# Altium footprint library Crystal.PcbLib: 185 footprints (part 3 of 12)
Each footprint in its own frame and in the unit in brackets; x right, y up, seen from the top. Pads: shape width x height; smd on the part's side, far side on the other; paste and mask are expansions set on the pad; w line width, h text height; cw(c..) or ccw(c..) is an arc to the next point about the centre after c.
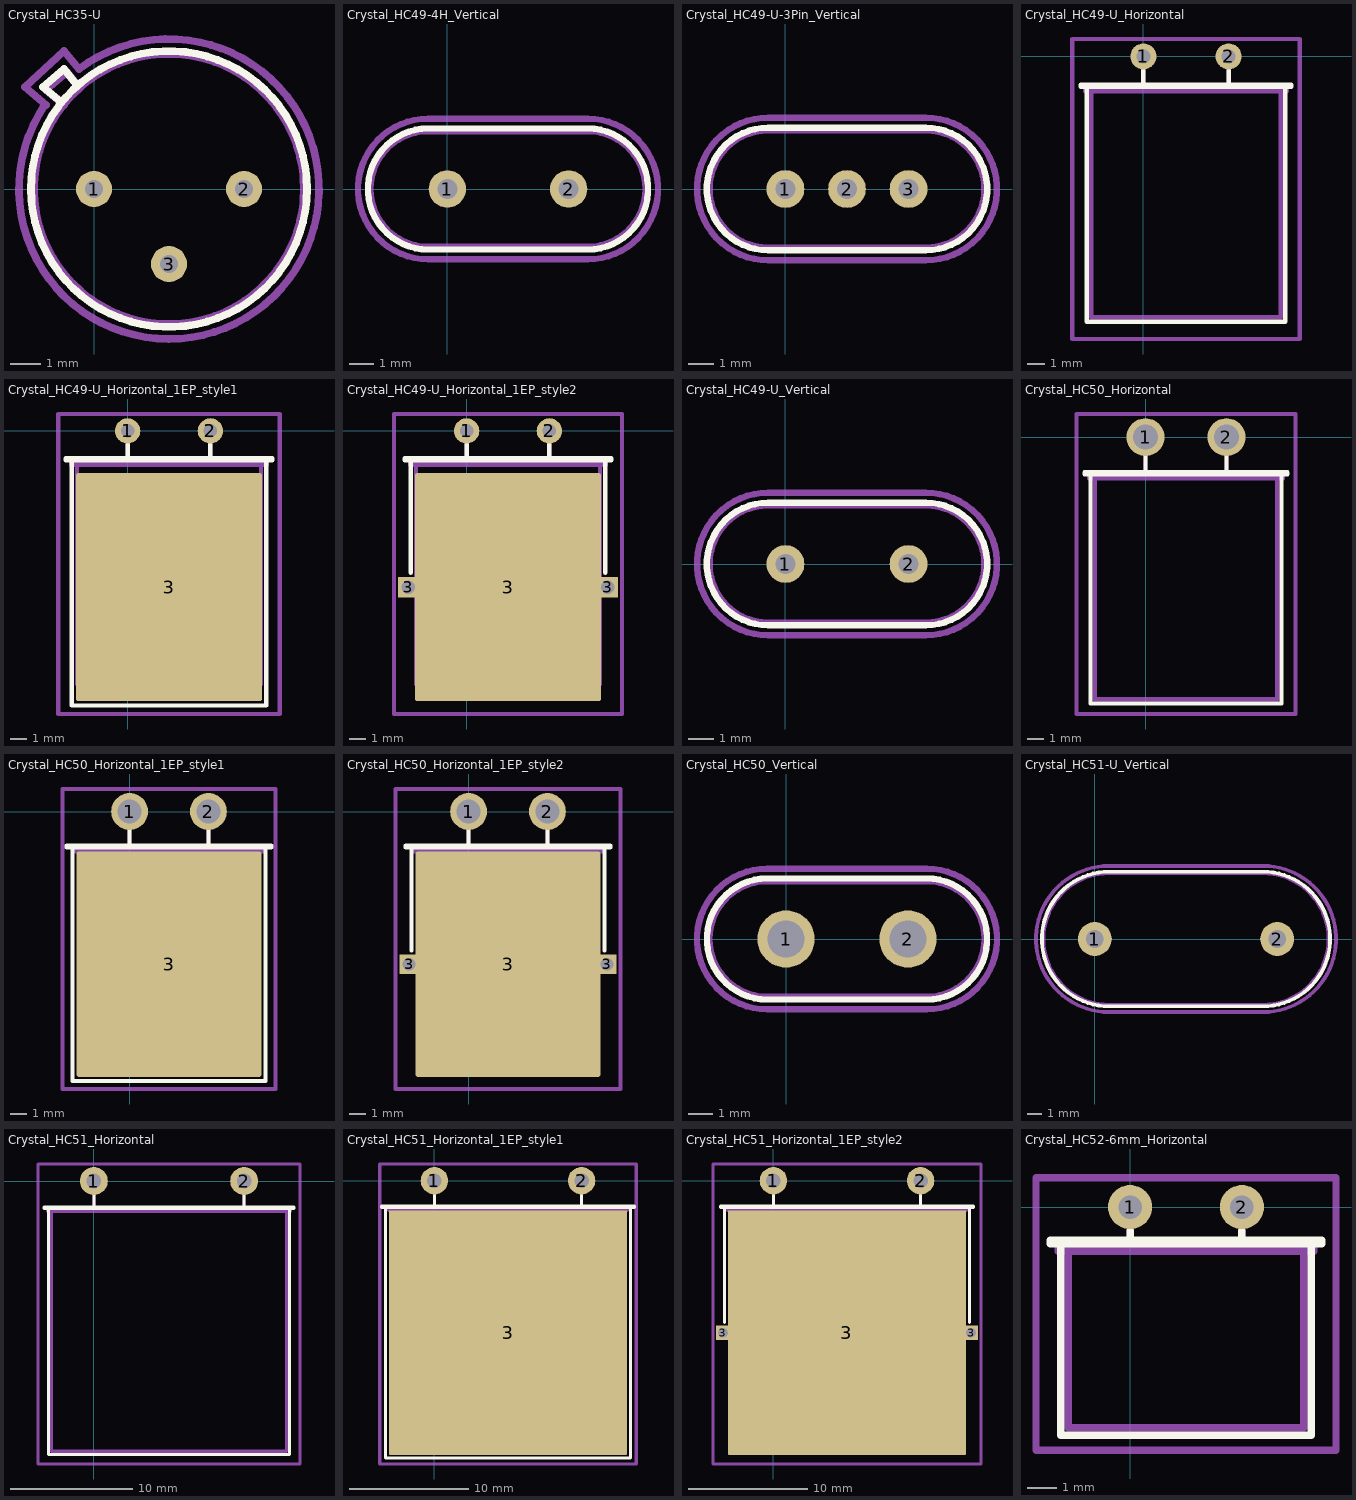
[diagram p2: the footprints below, top view; thin cyan lines are the x and y axes]

## Crystal_HC35-U [mm]
pads (3):
  round 1.2 hole 0.6: 1(0,0) 2(5,0) 3(2.5,-2.5)
F.SilkS:
  circle w0.254: c2.5,0 r4.6
  lines w0.254: -1.1,2.9 -1.7,3.4 -1,4 -0.6,3.5
Top Assembly:
  circle w0.254: c2.5,0 r4.5
  lines w0.254: -1,2.8 -1.6,3.3 -0.9,3.9 -0.5,3.4
  text "'.Designator'" at -1.547,-2.09 h1
Top Courtyard:
  lines w0.254: -1.639,2.805 ccw(c2.5,0) -0.5,4 -1,4.6 -2.3,3.4 -1.6,2.8
Top Designator:
  text ".Designator" at -5.118,-0.508 h1.52

## Crystal_HC49-4H_Vertical [mm]
pads (2):
  round 1.5 hole 0.8: 1(0,0) 2(4.88,0)
F.SilkS:
  lines w0.254: -0.76,-2.435 cw(c-0.76,0) -0.76,2.435 5.64,2.435 cw(c5.64,0) 5.64,-2.435 -0.76,-2.435
Top Assembly:
  lines w0.254: -0.76,-2.325 cw(c-0.76,0) -0.76,2.325 5.64,2.325 cw(c5.64,0) 5.64,-2.325 -0.76,-2.325
  text "'.Designator'" at -1.607,-0.84 h1
Top Courtyard:
  lines w0.254: -0.76,-2.83 cw(c-0.76,0) -0.76,2.83 5.64,2.83 cw(c5.64,0) 5.64,-2.83 -0.76,-2.83
Top Designator:
  text ".Designator" at -5.178,-0.508 h1.52

## Crystal_HC49-U-3Pin_Vertical [mm]
pads (3):
  round 1.5 hole 0.8: 1(0,0) 2(2.44,0) 3(4.88,0)
F.SilkS:
  lines w0.254: -0.685,-2.435 cw(c-0.685,0) -0.685,2.435 5.565,2.435 cw(c5.565,0) 5.565,-2.435 -0.685,-2.435
Top Assembly:
  lines w0.254: -0.685,-2.325 cw(c-0.685,0) -0.685,2.325 5.565,2.325 cw(c5.565,0) 5.565,-2.325 -0.685,-2.325
  text "'.Designator'" at -1.607,-0.84 h1
Top Courtyard:
  lines w0.254: -0.68,-2.83 cw(c-0.68,0) -0.68,2.83 5.56,2.83 cw(c5.56,0) 5.56,-2.83 -0.68,-2.83
Top Designator:
  text ".Designator" at -5.178,-0.508 h1.52

## Crystal_HC49-U_Horizontal [mm]
pads (2):
  round 1.5 hole 0.8: 1(0,0) 2(4.9,0)
F.SilkS:
  lines w0.254: 0,-1.74 0,-0.87 0,-0.81 ; 4.9,-1.74 4.9,-0.87 4.9,-0.81 ; -3.61,-1.74 8.51,-1.74 8.51,-1.62 -3.61,-1.62 -3.61,-1.74 ; -3.26,-15.26 8.16,-15.26 8.16,-1.74 -3.26,-1.74 -3.26,-15.26
Top Assembly:
  lines w0.254: 0,-2 0,-1 0,0 ; 4.9,-2 4.9,-1 4.9,0 ; -3.35,-2 8.25,-2 8.25,-1.9 -3.35,-1.9 -3.35,-2 ; -3,-15 7.9,-15 7.9,-2 -3,-2 -3,-15
  text "'.Designator'" at 3.29,-13.397 h1
Top Courtyard:
  lines w0.254: -4.1,-16.25 9,-16.25 9,1 -4.1,1 -4.1,-16.25
Top Designator:
  text ".Designator" at -5.168,-8.133 h1.52

## Crystal_HC49-U_Horizontal_1EP_style1 [mm]
pads (3):
  round 1.5 hole 0.8: 1(0,0) 2(4.9,0)
  rrect2% 11x13.5 smd: 3(2.45,-9.25)
F.SilkS:
  lines w0.254: 0,-1.74 0,-0.87 0,-0.81 ; 4.9,-1.74 4.9,-0.87 4.9,-0.81 ; -3.66,-1.74 8.56,-1.74 8.56,-1.62 -3.66,-1.62 -3.66,-1.74 ; -3.31,-16.26 8.21,-16.26 8.21,-1.74 -3.31,-1.74 -3.31,-16.26
Top Assembly:
  lines w0.254: 0,-2 0,-1 0,0 ; 4.9,-2 4.9,-1 4.9,0 ; -3.35,-2 8.25,-2 8.25,-1.9 -3.35,-1.9 -3.35,-2 ; -3,-15 7.9,-15 7.9,-2 -3,-2 -3,-15
  text "'.Designator'" at 3.29,-13.703 h1
Top Courtyard:
  lines w0.254: -4.1,-16.76 9,-16.76 9,1 -4.1,1 -4.1,-16.76
Top Designator:
  text ".Designator" at -5.168,-8.388 h1.52

## Crystal_HC49-U_Horizontal_1EP_style2 [mm]
pads (5):
  round 1.5 hole 0.8: 1(0,0) 2(4.9,0)
  rect 1.2x1.2 hole 0.8: 3(-3.45,-9.25) 3(8.35,-9.25)
  rrect2% 11x13.5 smd: 3(2.45,-9.25)
F.SilkS:
  lines w0.254: -3.31,-8.39 -3.31,-1.74 8.21,-1.74 8.21,-8.39 ; 0,-1.74 0,-0.87 0,-0.81 ; 4.9,-1.74 4.9,-0.87 4.9,-0.81 ; -3.66,-1.74 8.56,-1.74 8.56,-1.62 -3.66,-1.62 -3.66,-1.74
Top Assembly:
  lines w0.254: -3.45,-9.25 8.35,-9.25 ; 0,-2 0,-1 0,0 ; 4.9,-2 4.9,-1 4.9,0 ; -3.35,-2 8.25,-2 8.25,-1.9 -3.35,-1.9 -3.35,-2 ; -3,-15 7.9,-15 7.9,-2 -3,-2 -3,-15
  text "'.Designator'" at 3.29,-13.703 h1
Top Courtyard:
  lines w0.254: -4.3,-16.76 9.2,-16.76 9.2,1 -4.3,1 -4.3,-16.76
Top Designator:
  text ".Designator" at -5.168,-8.388 h1.52

## Crystal_HC49-U_Vertical [mm]
pads (2):
  round 1.5 hole 0.8: 1(0,0) 2(4.88,0)
F.SilkS:
  lines w0.254: -0.685,-2.435 cw(c-0.685,0) -0.685,2.435 5.565,2.435 cw(c5.565,0) 5.565,-2.435 -0.685,-2.435
Top Assembly:
  lines w0.254: -0.685,-2.325 cw(c-0.685,0) -0.685,2.325 5.565,2.325 cw(c5.565,0) 5.565,-2.325 -0.685,-2.325
  text "'.Designator'" at -1.607,-0.84 h1
Top Courtyard:
  lines w0.254: -0.68,-2.83 cw(c-0.68,0) -0.68,2.83 5.56,2.83 cw(c5.56,0) 5.56,-2.83 -0.68,-2.83
Top Designator:
  text ".Designator" at -5.178,-0.508 h1.52

## Crystal_HC50_Horizontal [mm]
pads (2):
  round 2.3 hole 1.5: 1(0,0) 2(4.9,0)
F.SilkS:
  lines w0.254: 0,-2.24 0,-1.21 ; 4.9,-2.24 4.9,-1.21 ; -3.685,-2.24 8.585,-2.24 8.585,-2.12 -3.685,-2.12 -3.685,-2.24 ; -3.335,-16.12 8.235,-16.12 8.235,-2.24 -3.335,-2.24 -3.335,-16.12
Top Assembly:
  lines w0.254: 0,-2.5 0,-1.25 0,0 ; 4.9,-2.5 4.9,-1.25 4.9,0 ; -3.425,-2.5 8.325,-2.5 8.325,-2.4 -3.425,-2.4 -3.425,-2.5 ; -3.075,-15.86 7.975,-15.86 7.975,-2.5 -3.075,-2.5 -3.075,-15.86
  text "'.Designator'" at 3.29,-13.537 h1
Top Courtyard:
  lines w0.254: -4.18,-16.75 9.08,-16.75 9.08,1.4 -4.18,1.4 -4.18,-16.75
Top Designator:
  text ".Designator" at -5.168,-8.183 h1.52

## Crystal_HC50_Horizontal_1EP_style1 [mm]
pads (3):
  round 2.3 hole 1.5: 1(0,0) 2(4.9,0)
  rrect2% 11.5x14 smd: 3(2.45,-9.5)
F.SilkS:
  lines w0.254: 0,-2.24 0,-1.21 ; 4.9,-2.24 4.9,-1.21 ; -3.91,-2.24 8.81,-2.24 8.81,-2.12 -3.91,-2.12 -3.91,-2.24 ; -3.56,-16.76 8.46,-16.76 8.46,-2.24 -3.56,-2.24 -3.56,-16.76
Top Assembly:
  lines w0.254: 0,-2.5 0,-1.25 0,0 ; 4.9,-2.5 4.9,-1.25 4.9,0 ; -3.425,-2.5 8.325,-2.5 8.325,-2.4 -3.425,-2.4 -3.425,-2.5 ; -3.075,-15.86 7.975,-15.86 7.975,-2.5 -3.075,-2.5 -3.075,-15.86
  text "'.Designator'" at 3.29,-13.843 h1
Top Courtyard:
  lines w0.254: -4.18,-17.26 9.08,-17.26 9.08,1.4 -4.18,1.4 -4.18,-17.26
Top Designator:
  text ".Designator" at -5.168,-8.438 h1.52

## Crystal_HC50_Horizontal_1EP_style2 [mm]
pads (5):
  round 2.3 hole 1.5: 1(0,0) 2(4.9,0)
  rect 1.2x1.2 hole 0.8: 3(-3.7,-9.5) 3(8.6,-9.5)
  rrect2% 11.5x14 smd: 3(2.45,-9.5)
F.SilkS:
  lines w0.254: -3.56,-8.64 -3.56,-2.24 8.46,-2.24 8.46,-8.64 ; 0,-2.24 0,-1.21 ; 4.9,-2.24 4.9,-1.21 ; -3.91,-2.24 8.81,-2.24 8.81,-2.12 -3.91,-2.12 -3.91,-2.24
Top Assembly:
  lines w0.254: -3.7,-9.5 8.6,-9.5 ; 0,-2.5 0,-1.25 0,0 ; 4.9,-2.5 4.9,-1.25 4.9,0 ; -3.425,-2.5 8.325,-2.5 8.325,-2.4 -3.425,-2.4 -3.425,-2.5 ; -3.075,-15.86 7.975,-15.86 7.975,-2.5 -3.075,-2.5 -3.075,-15.86
  text "'.Designator'" at 3.29,-13.843 h1
Top Courtyard:
  lines w0.254: -4.55,-17.26 9.45,-17.26 9.45,1.4 -4.55,1.4 -4.55,-17.26
Top Designator:
  text ".Designator" at -5.168,-8.438 h1.52

## Crystal_HC50_Vertical [mm]
pads (2):
  round 2.3 hole 1.5: 1(0,0) 2(4.9,0)
F.SilkS:
  lines w0.254: -0.75,-2.435 cw(c-0.75,0) -0.75,2.435 5.65,2.435 cw(c5.65,0) 5.65,-2.435 -0.75,-2.435
Top Assembly:
  lines w0.254: -0.75,-2.325 cw(c-0.75,0) -0.75,2.325 5.65,2.325 cw(c5.65,0) 5.65,-2.325 -0.75,-2.325
  text "'.Designator'" at -1.597,-0.84 h1
Top Courtyard:
  lines w0.254: -0.75,-2.83 cw(c-0.75,0) -0.75,2.83 5.65,2.83 cw(c5.65,0) 5.65,-2.83 -0.75,-2.83
Top Designator:
  text ".Designator" at -5.168,-0.508 h1.52

## Crystal_HC51-U_Vertical [mm]
pads (2):
  round 2.3 hole 1.2: 1(0,0) 2(12.35,0)
F.SilkS:
  lines w0.254: 0.975,-4.56 cw(c0.975,0) 0.975,4.56 11.375,4.56 cw(c11.375,0) 11.375,-4.56 0.975,-4.56
Top Assembly:
  lines w0.254: 0.975,-4.45 cw(c0.975,0) 0.975,4.45 11.375,4.45 cw(c11.375,0) 11.375,-4.45 0.975,-4.45
  text "'.Designator'" at 2.123,-0.84 h1
Top Courtyard:
  lines w0.254: 0.97,-4.95 cw(c0.97,0) 0.97,4.95 11.38,4.95 cw(c11.38,0) 11.38,-4.95 0.97,-4.95
Top Designator:
  text ".Designator" at -1.443,-0.508 h1.52

## Crystal_HC51_Horizontal [mm]
pads (2):
  round 2.3 hole 1.2: 1(0,0) 2(12.35,0)
F.SilkS:
  lines w0.254: 0,-2.24 0,-1.21 ; 12.35,-2.24 12.35,-1.21 ; -4.085,-2.24 16.435,-2.24 16.435,-2.12 -4.085,-2.12 -4.085,-2.24 ; -3.735,-22.46 16.085,-22.46 16.085,-2.24 -3.735,-2.24 -3.735,-22.46
Top Assembly:
  lines w0.254: 0,-2.5 0,-1.25 0,0 ; 12.35,-2.5 12.35,-1.25 12.35,0 ; -3.825,-2.5 16.175,-2.5 16.175,-2.4 -3.825,-2.4 -3.825,-2.5 ; -3.475,-22.2 15.825,-22.2 15.825,-2.5 -3.475,-2.5 -3.475,-22.2
  text "'.Designator'" at 7.015,-17.437 h1
Top Courtyard:
  lines w0.254: -4.58,-23.25 16.93,-23.25 16.93,1.4 -4.58,1.4 -4.58,-23.25
Top Designator:
  text ".Designator" at -1.443,-11.433 h1.52

## Crystal_HC51_Horizontal_1EP_style1 [mm]
pads (3):
  round 2.3 hole 1.2: 1(0,0) 2(12.35,0)
  rrect1% 20x20.5 smd: 3(6.175,-12.75)
F.SilkS:
  lines w0.254: 0,-2.24 0,-1.21 ; 12.35,-2.24 12.35,-1.21 ; -4.435,-2.24 16.785,-2.24 16.785,-2.12 -4.435,-2.12 -4.435,-2.24 ; -4.085,-23.26 16.435,-23.26 16.435,-2.24 -4.085,-2.24 -4.085,-23.26
Top Assembly:
  lines w0.254: 0,-2.5 0,-1.25 0,0 ; 12.35,-2.5 12.35,-1.25 12.35,0 ; -3.825,-2.5 16.175,-2.5 16.175,-2.4 -3.825,-2.4 -3.825,-2.5 ; -3.475,-22.2 15.825,-22.2 15.825,-2.5 -3.475,-2.5 -3.475,-22.2
  text "'.Designator'" at 7.015,-17.743 h1
Top Courtyard:
  lines w0.254: -4.58,-23.76 16.93,-23.76 16.93,1.4 -4.58,1.4 -4.58,-23.76
Top Designator:
  text ".Designator" at -1.443,-11.688 h1.52

## Crystal_HC51_Horizontal_1EP_style2 [mm]
pads (5):
  round 2.3 hole 1.2: 1(0,0) 2(12.35,0)
  rect 1.2x1.2 hole 0.8: 3(-4.225,-12.75) 3(16.575,-12.75)
  rrect1% 20x20.5 smd: 3(6.175,-12.75)
F.SilkS:
  lines w0.254: -4.085,-11.89 -4.085,-2.24 16.435,-2.24 16.435,-11.89 ; 0,-2.24 0,-1.21 ; 12.35,-2.24 12.35,-1.21 ; -4.435,-2.24 16.785,-2.24 16.785,-2.12 -4.435,-2.12 -4.435,-2.24
Top Assembly:
  lines w0.254: -4.225,-12.75 16.575,-12.75 ; 0,-2.5 0,-1.25 0,0 ; 12.35,-2.5 12.35,-1.25 12.35,0 ; -3.825,-2.5 16.175,-2.5 16.175,-2.4 -3.825,-2.4 -3.825,-2.5 ; -3.475,-22.2 15.825,-22.2 15.825,-2.5 -3.475,-2.5 -3.475,-22.2
  text "'.Designator'" at 7.015,-17.743 h1
Top Courtyard:
  lines w0.254: -5.08,-23.76 17.43,-23.76 17.43,1.4 -5.08,1.4 -5.08,-23.76
Top Designator:
  text ".Designator" at -1.443,-11.688 h1.52

## Crystal_HC52-6mm_Horizontal [mm]
pads (2):
  round 1.5 hole 0.8: 1(0,0) 2(3.8,0)
F.SilkS:
  lines w0.254: 0,-1.24 0,-0.81 ; 3.8,-1.24 3.8,-0.81 ; -2.71,-1.24 6.51,-1.24 6.51,-1.12 -2.71,-1.12 -2.71,-1.24 ; -2.36,-7.76 6.16,-7.76 6.16,-1.24 -2.36,-1.24 -2.36,-7.76
Top Assembly:
  lines w0.254: 0,-1.5 0,-0.75 0,0 ; 3.8,-1.5 3.8,-0.75 3.8,0 ; -2.45,-1.5 6.25,-1.5 6.25,-1.4 -2.45,-1.4 -2.45,-1.5 ; -2.1,-7.5 5.9,-7.5 5.9,-1.5 -2.1,-1.5 -2.1,-7.5
  text "'.Designator'" at 2.74,-8.603 h1
Top Courtyard:
  lines w0.254: -3.2,-8.27 7,-8.27 7,1 -3.2,1 -3.2,-8.27
Top Designator:
  text ".Designator" at -5.718,-4.321 h1.52